# Altium schematic symbol library Schlib1.SchLib: 7 symbols
Pins are listed as number, name and electrical type; pins without a type are passive.

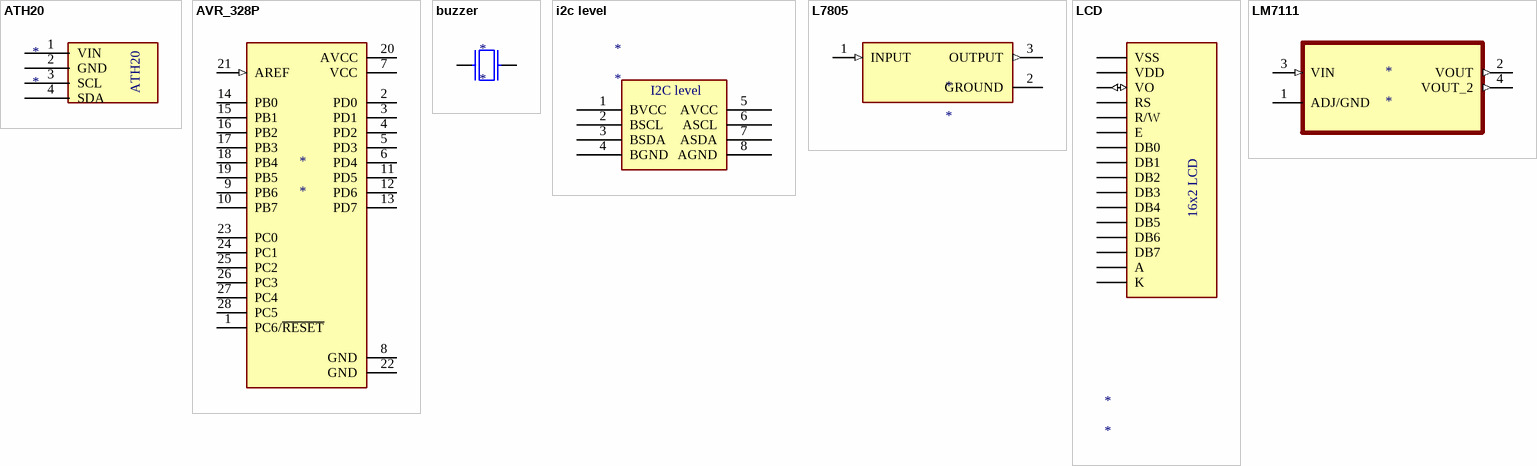
[diagram p0: symbols ATH20 to LM7111]

## ATH20
designator *
footprint AHT20
pins: 1 VIN, 2 GND, 3 SCL, 4 SDA

## AVR_328P
designator *
footprint 328
pins: 1 PC6/~{RESET}, 2 PD0, 3 PD1, 4 PD2, 5 PD3, 6 PD4, 7 VCC, 8 GND (power), 9 PB6, 10 PB7, 11 PD5, 12 PD6, 13 PD7, 14 PB0, 15 PB1, 16 PB2, 17 PB3, 18 PB4, 19 PB5, 20 AVCC, 21 AREF (in), 22 GND (power), 23 PC0, 24 PC1, 25 PC2, 26 PC3, 27 PC4, 28 PC5

## buzzer
designator *
footprint buzzer
pins: 1, 2

## i2c level
designator *
footprint I2C LEVEL
pins: 1 BVCC, 2 BSCL, 3 BSDA, 4 BGND, 5 AVCC, 6 ASCL, 7 ASDA, 8 AGND
text: I2C level

## L7805
designator *
footprint L7805
pins: 1 INPUT (in), 2 GROUND (power), 3 OUTPUT (out)

## LCD
designator *
footprint LCD
pins: 1 VSS (power), 2 VDD, 3 VO (io), 4 RS, 5 R/W, 6 E, 7 DB0, 8 DB1, 9 DB2, 10 DB3, 11 DB4, 12 DB5, 13 DB6, 14 DB7, 15 A (power), 16 K (power)
text: 16x2 LCD

## LM7111
designator *
pins: 1 ADJ/GND, 2 VOUT (out), 3 VIN (in), 4 VOUT_2 (out)